# Altium footprint library HDR_fszhang.PcbLib: 116 footprints (part 4 of 8)
Each footprint in its own frame and in the unit in brackets; x right, y up, seen from the top. Pads: shape width x height; smd on the part's side, far side on the other; paste and mask are expansions set on the pad; w line width, h text height; cw(c..) or ccw(c..) is an arc to the next point about the centre after c.
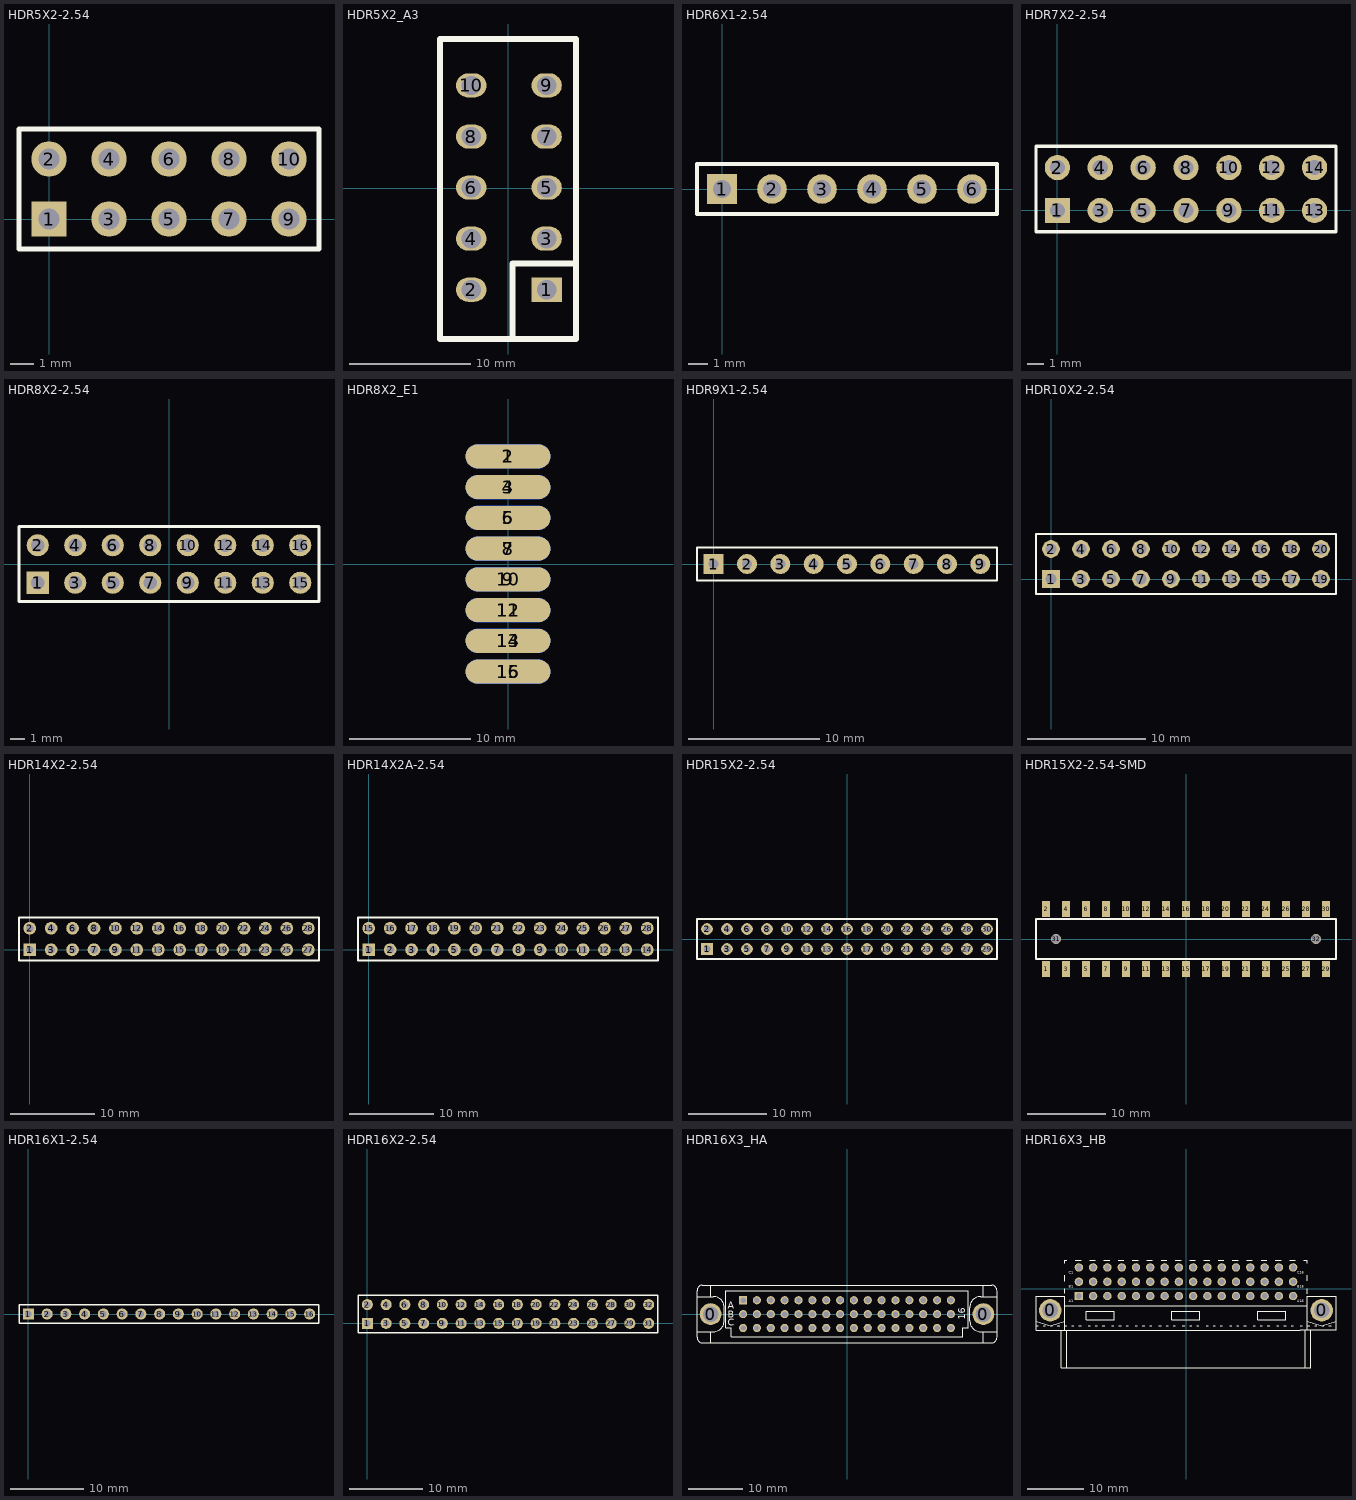
[diagram p3: the footprints below, top view; thin cyan lines are the x and y axes]

## HDR5X2-2.54 [mm] "2.54双排针排座"
height 1.2
pads (10):
  rect 1.5x1.5 hole 0.9: 1(0,0)
  round 1.5 hole 0.9: 2(0,2.54) 3(2.54,0) 4(2.54,2.54) 5(5.08,0) 6(5.08,2.54) 7(7.62,0) 8(7.62,2.54) 9(10.16,0) 10(10.16,2.54)
Top Overlay:
  lines w0.2: -1.27,-1.27 11.43,-1.27 11.43,3.81 -1.27,3.81 -1.27,-1.27

## HDR5X2_A3 [mm]
pads (10):
  rect 2.5x2 hole 1.6: 1(3.144,-8.351)
  oval 2.5x2 hole 1.6: 2(-3.056,-8.351) 3(3.144,-4.151) 4(-3.056,-4.151) 5(3.144,0.049) 6(-3.056,0.049) 7(3.144,4.249) 8(-3.056,4.249) 9(3.144,8.449) 10(-3.056,8.449)
Top Overlay:
  lines w0.5: 0.35,-12.415 0.35,-6.192 5.557,-6.192 ; -5.619,-12.415 5.557,-12.415 5.557,12.274 -5.619,12.274 -5.619,-12.415

## HDR6X1-2.54 [mm] "2.54单排针排座"
height 1.6
pads (6):
  rect 1.5x1.5 hole 0.9: 1(0,0)
  round 1.5 hole 0.9: 2(2.54,0) 3(5.08,0) 4(7.62,0) 5(10.16,0) 6(12.7,0)
Top Overlay:
  lines w0.2: -1.27,-1.27 13.97,-1.27 13.97,1.27 -1.27,1.27 -1.27,-1.27

## HDR7X2-2.54 [mm] "2.54双排针排座"
height 1.75
pads (14):
  rect 1.5x1.5 hole 0.9: 1(0,0)
  round 1.5 hole 0.9: 2(0,2.54) 3(2.54,0) 4(2.54,2.54) 5(5.08,0) 6(5.08,2.54) 7(7.62,0) 8(7.62,2.54) 9(10.16,0) 10(10.16,2.54) 11(12.7,0) 12(12.7,2.54) 13(15.24,0) 14(15.24,2.54)
Top Overlay:
  lines w0.2: -1.27,-1.27 -1.27,3.81 16.51,3.81 16.51,-1.27 -1.27,-1.27

## HDR8X2-2.54 [mm] "2.54双排针排座"
pads (16):
  rect 1.5x1.5 hole 0.9: 1(-8.89,-1.27)
  round 1.5 hole 0.9: 2(-8.89,1.27) 3(-6.35,-1.27) 4(-6.35,1.27) 5(-3.81,-1.27) 6(-3.81,1.27) 7(-1.27,-1.27) 8(-1.27,1.27) 9(1.27,-1.27) 10(1.27,1.27) 11(3.81,-1.27) 12(3.81,1.27) 13(6.35,-1.27) 14(6.35,1.27) 15(8.89,-1.27) 16(8.89,1.27)
Top Overlay:
  lines w0.2: -10.16,-2.54 -10.16,2.54 10.16,2.54 10.16,-2.54 -10.16,-2.54
3D body: height 12, standoff 0, extent -10.16,-2.54 10.16,2.54

## HDR8X2_E1 [mm]
pads (16):
  oval 7x2 smd: 1(0,8.89) 3(0,6.35) 5(0,3.81) 7(0,1.27) 9(0,-1.27) 11(0,-3.81) 13(0,-6.35) 15(0,-8.89)
  oval 7x2 smd far side: 2(0,8.89) 4(0,6.35) 6(0,3.81) 8(0,1.27) 10(0,-1.27) 12(0,-3.81) 14(0,-6.35) 16(0,-8.89)

## HDR9X1-2.54 [mil] "2.54单排针排座"
height 196.85
pads (9):
  rect 60x60 hole 30: 1(0,0)
  round 60 hole 30: 2(100,0) 3(200,0) 4(300,0) 5(400,0) 6(500,0) 7(600,0) 8(700,0) 9(800,0)
Top Overlay:
  lines w5.91: -50,-50 850,-50 850,50 -50,50 -50,-50

## HDR10X2-2.54 [mm] "2.54双排针排座"
height 1.75
pads (20):
  rect 1.5x1.5 hole 0.9: 1(0,0)
  round 1.5 hole 0.9: 2(0,2.54) 3(2.54,0) 4(2.54,2.54) 5(5.08,0) 6(5.08,2.54) 7(7.62,0) 8(7.62,2.54) 9(10.16,0) 10(10.16,2.54) 11(12.7,0) 12(12.7,2.54) 13(15.24,0) 14(15.24,2.54) 15(17.78,0) 16(17.78,2.54) 17(20.32,0) 18(20.32,2.54) 19(22.86,0) 20(22.86,2.54)
Top Overlay:
  lines w0.2: -1.27,-1.27 0.635,-1.27 24.13,-1.27 24.13,3.81 0.635,3.81 -1.27,3.81 -1.27,-1.27

## HDR14X2-2.54 [mm] "2.54双排针排座"
height 7
pads (28):
  rect 1.5x1.5 hole 0.9: 1(0,0)
  round 1.5 hole 0.9: 2(0,2.54) 3(2.54,0) 4(2.54,2.54) 5(5.08,0) 6(5.08,2.54) 7(7.62,0) 8(7.62,2.54) 9(10.16,0) 10(10.16,2.54) 11(12.7,0) 12(12.7,2.54) 13(15.24,0) 14(15.24,2.54) 15(17.78,0) 16(17.78,2.54) 17(20.32,0) 18(20.32,2.54) 19(22.86,0) 20(22.86,2.54) 21(25.4,0) 22(25.4,2.54) 23(27.94,0) 24(27.94,2.54) 25(30.48,0) 26(30.48,2.54) 27(33.02,0) 28(33.02,2.54)
Top Overlay:
  lines w0.2: -1.27,-1.27 -1.27,3.81 34.29,3.81 34.29,-1.27 -1.27,-1.27

## HDR14X2A-2.54 [mm] "2.54双排针排座"
height 7
pads (28):
  rect 1.5x1.5 hole 0.9: 1(0,0)
  round 1.5 hole 0.9: 2(2.54,0) 3(5.08,0) 4(7.62,0) 5(10.16,0) 6(12.7,0) 7(15.24,0) 8(17.78,0) 9(20.32,0) 10(22.86,0) 11(25.4,0) 12(27.94,0) 13(30.48,0) 14(33.02,0) 15(0,2.54) 16(2.54,2.54) 17(5.08,2.54) 18(7.62,2.54) 19(10.16,2.54) 20(12.7,2.54) 21(15.24,2.54) 22(17.78,2.54) 23(20.32,2.54) 24(22.86,2.54) 25(25.4,2.54) 26(27.94,2.54) 27(30.48,2.54) 28(33.02,2.54)
Top Overlay:
  lines w0.2: -1.27,-1.27 34.29,-1.27 34.29,3.81 -1.27,3.81 -1.27,-1.27

## HDR15X2-2.54 [mm] "Connector; Header; 15x2 Position"
height 0.6
pads (30):
  rect 1.5x1.5 hole 0.9: 1(-17.78,-1.27)
  round 1.5 hole 0.9: 2(-17.78,1.27) 3(-15.24,-1.27) 4(-15.24,1.27) 5(-12.7,-1.27) 6(-12.7,1.27) 7(-10.16,-1.27) 8(-10.16,1.27) 9(-7.62,-1.27) 10(-7.62,1.27) 11(-5.08,-1.27) 12(-5.08,1.27) 13(-2.54,-1.27) 14(-2.54,1.27) 15(0,-1.27) 16(0,1.27) 17(2.54,-1.27) 18(2.54,1.27) 19(5.08,-1.27) 20(5.08,1.27) 21(7.62,-1.27) 22(7.62,1.27) 23(10.16,-1.27) 24(10.16,1.27) 25(12.7,-1.27) 26(12.7,1.27) 27(15.24,-1.27) 28(15.24,1.27) 29(17.78,-1.27) 30(17.78,1.27)
Top Overlay:
  lines w0.2: -19.05,-2.54 -19.05,2.54 19.05,2.54 19.05,-2.54 -19.05,-2.54

## HDR15X2-2.54-SMD [mm] "2.54双排针排座"
height 1.2
pads (32):
  rect 1x2 smd: 1(-17.78,-3.81) 2(-17.78,3.81) 3(-15.24,-3.81) 4(-15.24,3.81) 5(-12.7,-3.81) 6(-12.7,3.81) 7(-10.16,-3.81) 8(-10.16,3.81) 9(-7.62,-3.81) 10(-7.62,3.81) 11(-5.08,-3.81) 12(-5.08,3.81) 13(-2.54,-3.81) 14(-2.54,3.81) 15(0,-3.81) 16(0,3.81) 17(2.54,-3.81) 18(2.54,3.81) 19(5.08,-3.81) 20(5.08,3.81) 21(7.62,-3.81) 22(7.62,3.81) 23(10.16,-3.81) 24(10.16,3.81) 25(12.7,-3.81) 26(12.7,3.81) 27(15.24,-3.81) 28(15.24,3.81) 29(17.78,-3.81) 30(17.78,3.81)
  round 1.3 hole 1.2: 31(-16.51,0) 32(16.51,0)
Top Overlay:
  lines w0.2: -19.05,-2.54 19.05,-2.54 19.05,2.54 -19.05,2.54 -19.05,-2.54

## HDR16X1-2.54 [mm] "2.54单排针排座"
height 5.8
pads (16):
  rect 1.5x1.5 hole 0.9: 1(0,0)
  round 1.5 hole 0.9: 2(2.54,0) 3(5.08,0) 4(7.62,0) 5(10.16,0) 6(12.7,0) 7(15.24,0) 8(17.78,0) 9(20.32,0) 10(22.86,0) 11(25.4,0) 12(27.94,0) 13(30.48,0) 14(33.02,0) 15(35.56,0) 16(38.1,0)
Top Overlay:
  lines w0.2: -1.27,-1.27 -1.27,1.27 0.635,1.27 39.37,1.27 39.37,-1.27 -1.27,-1.27

## HDR16X2-2.54 [mm] "2.54双排针排座"
height 1.2
pads (32):
  rect 1.5x1.5 hole 0.9: 1(0,0)
  round 1.5 hole 0.9: 2(0,2.54) 3(2.54,0) 4(2.54,2.54) 5(5.08,0) 6(5.08,2.54) 7(7.62,0) 8(7.62,2.54) 9(10.16,0) 10(10.16,2.54) 11(12.7,0) 12(12.7,2.54) 13(15.24,0) 14(15.24,2.54) 15(17.78,0) 16(17.78,2.54) 17(20.32,0) 18(20.32,2.54) 19(22.86,0) 20(22.86,2.54) 21(25.4,0) 22(25.4,2.54) 23(27.94,0) 24(27.94,2.54) 25(30.48,0) 26(30.48,2.54) 27(33.02,0) 28(33.02,2.54) 29(35.56,0) 30(35.56,2.54) 31(38.1,0) 32(38.1,2.54)
Top Overlay:
  lines w0.2: -1.27,-1.27 39.37,-1.27 39.37,3.81 -1.27,3.81 -1.27,-1.27

## HDR16X3_HA [mm]
height 10
pads (50):
  round 4 hole 2.8: 0(-25,0) 0(25,0)
  rect 1.5x1.5 hole 1: A1(-19.05,2.54)
  round 1.5 hole 1: A2(-16.51,2.54) A3(-13.97,2.54) A4(-11.43,2.54) A5(-8.89,2.54) A6(-6.35,2.54) A7(-3.81,2.54) A8(-1.27,2.54) A9(1.27,2.54) A10(3.81,2.54) A11(6.35,2.54) A12(8.89,2.54) A13(11.43,2.54) A14(13.97,2.54) A15(16.51,2.54) A16(19.05,2.54) B1(-19.05,0) B2(-16.51,0) B3(-13.97,0) B4(-11.43,0) B5(-8.89,0) B6(-6.35,0) B7(-3.81,0) B8(-1.27,0) B9(1.27,0) B10(3.81,0) B11(6.35,0) B12(8.89,0) B13(11.43,0) B14(13.97,0) B15(16.51,0) B16(19.05,0) C1(-19.05,-2.54) C2(-16.51,-2.54) C3(-13.97,-2.54) C4(-11.43,-2.54) C5(-8.89,-2.54) C6(-6.35,-2.54) C7(-3.81,-2.54) C8(-1.27,-2.54) C9(1.27,-2.54) C10(3.81,-2.54) C11(6.35,-2.54) C12(8.89,-2.54) C13(11.43,-2.54) C14(13.97,-2.54) C15(16.51,-2.54) C16(19.05,-2.54)
Top Overlay:
  lines w0.2: -27.5,-3.2 -24.5,-3.2 ccw(c-24.5,-1.2) -22.5,-1.2 -22.5,1.2 ccw(c-24.5,1.2) -24.5,3.2 -27.5,3.2 ; -25,-5.25 -25,-3.2 ; -25,3.2 -25,5.3 ; 25,-5.25 25,-3.2 ; 25,3.2 25,5.3 ; 26.497,-5.25 22.5,-5.25 -22.5,-5.25 -26.5,-5.25 cw(c-26.5,-4.25) -27.5,-4.25 -27.5,3.2 ; 26.5,-5.25 ccw(c26.5,-4.25) 27.5,-4.25 27.5,3.2 ; 27.5,-3.2 24.5,-3.2 cw(c24.5,-1.2) 22.5,-1.2 22.5,1.2 cw(c24.5,1.2) 24.5,3.2 27.5,3.2 ; -27.5,3.2 -27.5,4.3 cw(c-26.5,4.3) -26.5,5.3 26.5,5.3 cw(c26.5,4.3) 27.5,4.3 27.5,3.2 ; -22.2,-2.54 -21.225,-2.54 -21.225,-4.178 21.225,-4.178 21.225,-2.54 22.2,-2.54 22.2,4.25 -22.2,4.25 -22.2,-2.54
  text "16" at 21.717,-1.016 h1.27
  text "C" at -21.844,-2.159 h1.27
  text "A" at -21.844,1.016 h1.27
  text "B" at -21.844,-0.635 h1.27

## HDR16X3_HB [mm]
height 10
pads (50):
  round 4 hole 2.8: 0(-24.13,-3.81) 0(24.13,-3.81)
  rect 1.5x1.5 hole 1: A1(-19.05,-1.27)
  round 1.5 hole 1: A2(-16.51,-1.27) A3(-13.97,-1.27) A4(-11.43,-1.27) A5(-8.89,-1.27) A6(-6.35,-1.27) A7(-3.81,-1.27) A8(-1.27,-1.27) A9(1.27,-1.27) A10(3.81,-1.27) A11(6.35,-1.27) A12(8.89,-1.27) A13(11.43,-1.27) A14(13.97,-1.27) A15(16.51,-1.27) A16(19.05,-1.27) B1(-19.05,1.27) B2(-16.51,1.27) B3(-13.97,1.27) B4(-11.43,1.27) B5(-8.89,1.27) B6(-6.35,1.27) B7(-3.81,1.27) B8(-1.27,1.27) B9(1.27,1.27) B10(3.81,1.27) B11(6.35,1.27) B12(8.89,1.27) B13(11.43,1.27) B14(13.97,1.27) B15(16.51,1.27) B16(19.05,1.27) C1(-19.05,3.81) C2(-16.51,3.81) C3(-13.97,3.81) C4(-11.43,3.81) C5(-8.89,3.81) C6(-6.35,3.81) C7(-3.81,3.81) C8(-1.27,3.81) C9(1.27,3.81) C10(3.81,3.81) C11(6.35,3.81) C12(8.89,3.81) C13(11.43,3.81) C14(13.97,3.81) C15(16.51,3.81) C16(19.05,3.81)
Top Overlay:
  lines w0.2: -26.67,-6.57 -26.289,-6.57 ; -26.67,-5.755 -24.13,-6.566 -21.59,-5.755 ; -25.4,-6.57 -25.019,-6.57 ; -24.13,-6.57 -23.749,-6.57 ; -22.86,-6.57 -22.479,-6.57 ; -21.59,-7.31 -21.59,-1.27 -26.67,-1.27 -26.67,-7.31 -22.92,-7.31 -20.32,-7.31 20.32,-7.31 ; -21.59,-6.57 -21.209,-6.57 ; -21.59,-3.01 21.59,-3.01 ; -21.59,-0.789 -21.59,0 ; -21.59,1.397 -21.59,2.413 ; -21.59,4.572 -21.59,5.08 -21.209,5.08 ; -20.32,-6.57 -19.939,-6.57 ; -19.685,5.08 -18.669,5.08 ; -19.05,-6.57 -18.669,-6.57 ; -17.399,-6.57 -17.018,-6.57 ; -17.145,5.08 -16.129,5.08 ; -16.129,-6.57 -15.748,-6.57 ; -14.859,-6.57 -14.478,-6.57 ; -14.605,5.08 -13.589,5.08 ; -13.208,-6.57 -12.827,-6.57 ; -12.065,5.08 -11.049,5.08 ; -11.938,-6.57 -11.557,-6.57 ; -10.668,-6.57 -10.287,-6.57 ; -9.525,5.08 -8.509,5.08 ; -9.017,-6.57 -8.636,-6.57 ; -7.747,-6.57 -7.366,-6.57 ; -6.985,5.08 -5.969,5.08 ; -6.477,-6.57 -6.096,-6.57 ; -4.826,-6.57 -4.445,-6.57 ; -4.445,5.08 -3.429,5.08 ; -3.556,-6.57 -3.175,-6.57 ; -2.286,-6.57 -1.905,-6.57 ; -1.905,5.08 -0.889,5.08 ; -0.635,-6.57 -0.254,-6.57 ; 0.635,-6.57 1.016,-6.57 ; 0.635,5.08 1.651,5.08 ; 1.905,-6.57 2.286,-6.57 ; 3.175,5.08 4.191,5.08 ; 3.556,-6.57 3.937,-6.57 ; 4.826,-6.57 5.207,-6.57 ; 5.715,5.08 6.731,5.08 ; 6.096,-6.57 6.477,-6.57 ; 7.747,-6.57 8.128,-6.57 ; 8.255,5.08 9.271,5.08 ; 9.017,-6.57 9.398,-6.57 ; 10.287,-6.57 10.668,-6.57 ; 10.795,5.08 11.811,5.08 ; 11.938,-6.57 12.319,-6.57 ; 13.208,-6.57 13.589,-6.57 ; 13.335,5.08 14.351,5.08 ; 14.478,-6.57 14.859,-6.57 ; 15.875,5.08 16.891,5.08 ; 16.129,-6.57 16.51,-6.57 ; 17.399,-6.57 17.78,-6.57 ; 18.415,5.08 19.431,5.08 ; 18.669,-6.57 19.05,-6.57 ; 20.32,-7.304 22.914,-7.304 26.67,-7.304 26.67,-1.27 21.59,-1.27 21.59,-7.304 ; 20.32,-6.57 20.701,-6.57 ; 20.955,5.08 21.59,5.08 21.59,4.572 ; 21.59,-5.755 24.13,-6.566 26.67,-5.755 ; 21.59,-0.865 21.59,0 ; 21.59,1.41 21.59,2.426 ; 24.13,-6.57 24.511,-6.57 ; 25.4,-6.57 25.781,-6.57 ; -22.2,-14.01 22.2,-14.01 22.2,-7.304 21.225,-7.304 21.225,-14.01 -21.225,-14.01 -21.225,-7.31 -22.2,-7.31 -22.2,-14.01 ; -17.755,-5.45 -17.755,-4.01 -12.755,-4.01 -12.755,-5.45 -17.755,-5.45 ; -2.515,-5.45 2.485,-5.45 2.485,-4.01 -2.515,-4.01 -2.515,-5.45 ; 12.755,-5.45 12.755,-4.01 17.755,-4.01 17.755,-5.45 12.755,-5.45 ; 21.59,-6.57 21.971,-6.57 21.59,-6.57 ; 22.86,-6.57 23.241,-6.57 22.86,-6.57
  text "B1" at -20.828,0 h0.8
  text "A1" at -20.828,-2.54 h0.8
  text "A16" at 19.812,-2.54 h0.8
  text "B16" at 19.812,0 h0.8
  text "C1" at -20.828,2.54 h0.8
  text "C16" at 19.812,2.54 h0.8